# Altium integrated library Linear Technology Power Management Battery Management.IntLib: 626 symbols (part 5 of 56)
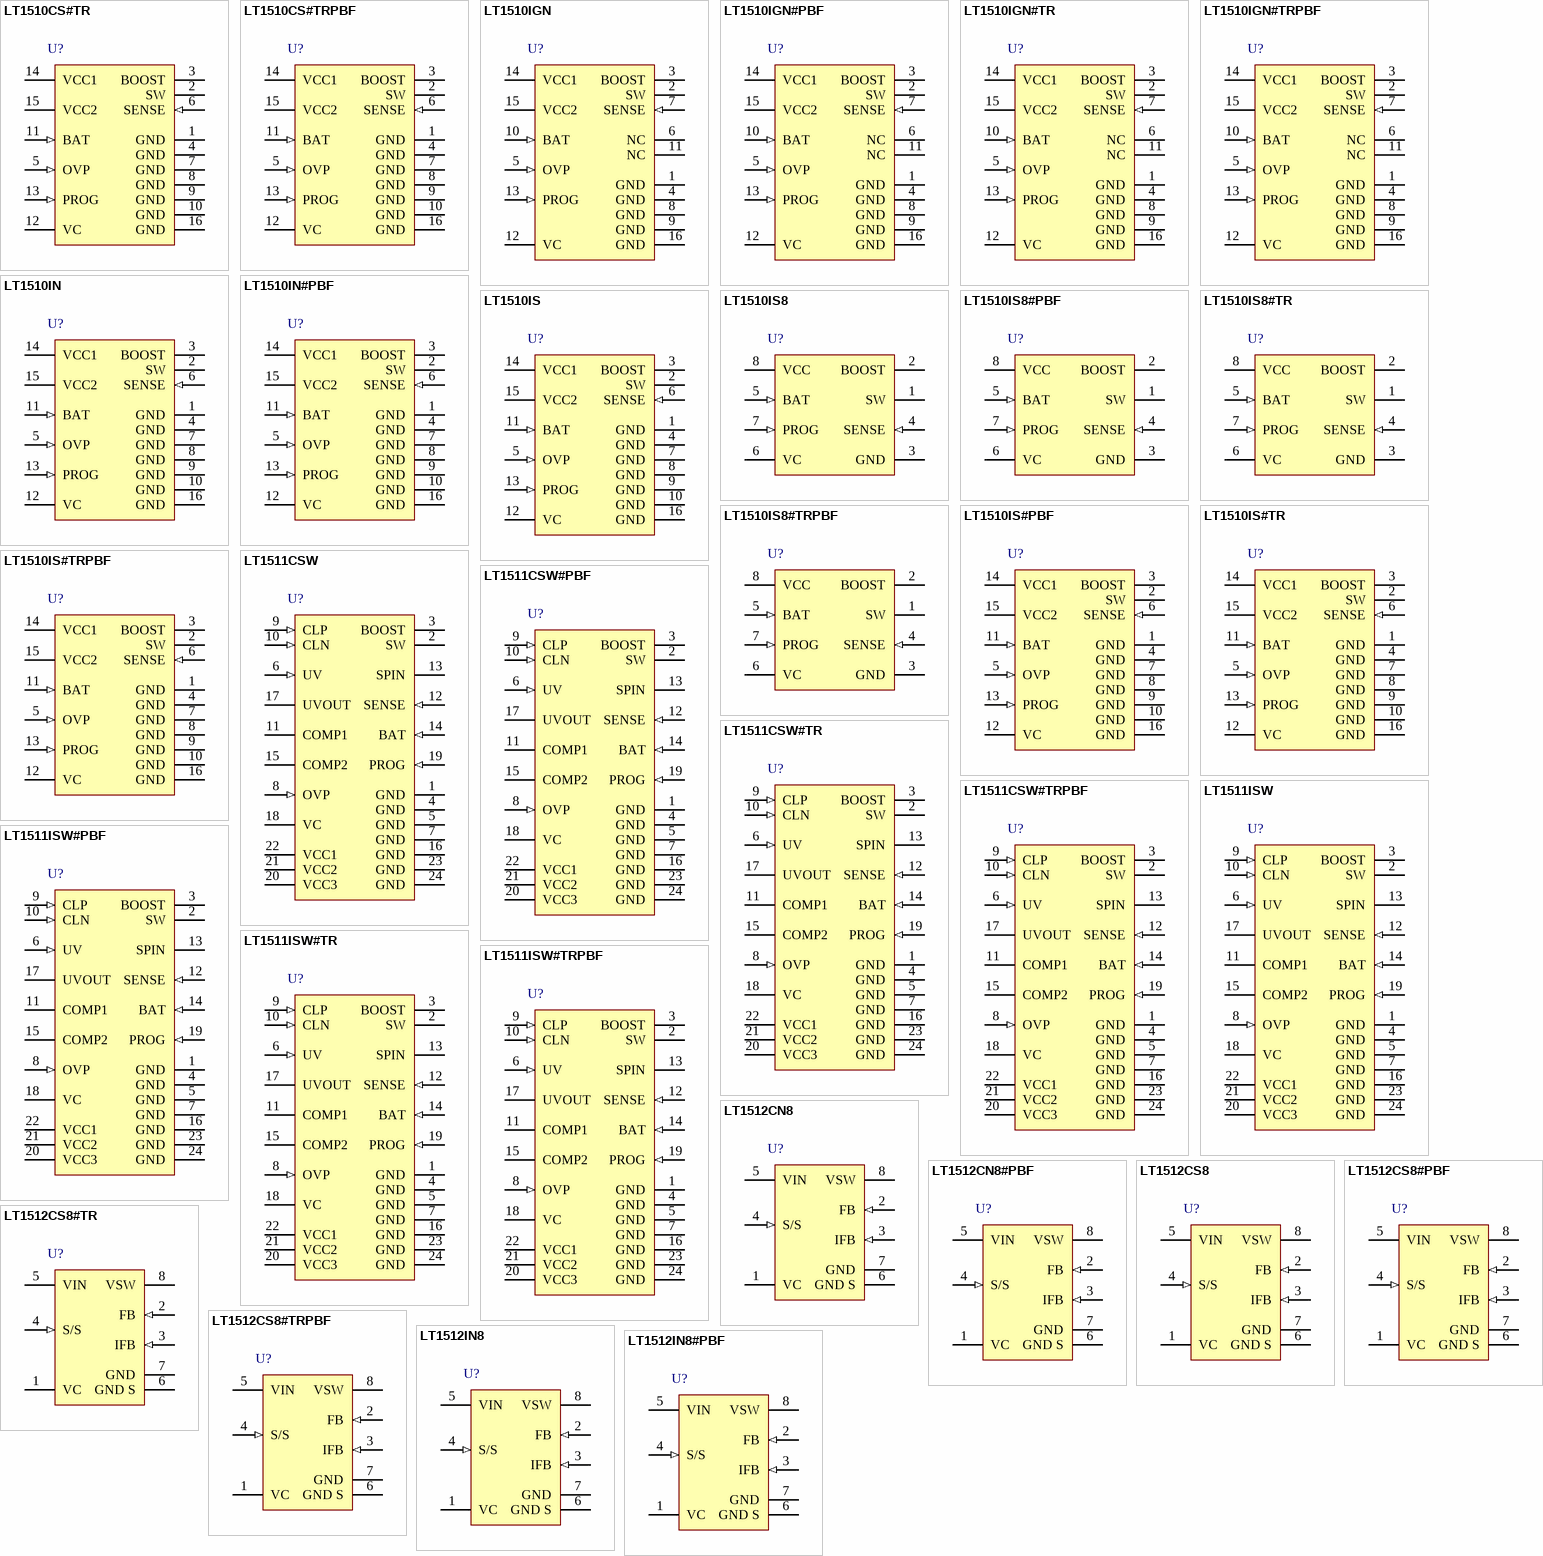
[diagram p26: symbols LT1510CS#TR to LT1512IN8#PBF]

## LT1511CSW#TRPBF
designator U?
Integrated Switching Charger with 4 A Internal Switch, 7 to 28 V Vin, 24-pin SOIC (SW-24), 0 to 70 degC, Pb-Free, Tape and Reel; Manufacturer: Linear Technology; PartNumber: LT1511CSW#TRPBF; Battery Chemistry: Li-Ion, Li-Polymer, NiCd, NiMH, Lead Acid; Charge Termination: Use LTC1729; Float Voltage: Adj; Max Charge Current(A): 3; Number of Cells: 1 to 4 (Li), 1 to 12 (Ni); Vin Max(V): 28; Vin Min(V): 7; DatasheetVersion: Rev. B; PackageVersion: Jun-10; PackageReference: SW-24; PackageDescription: 24-Pin Plastic Small Outline, Body 15.395 x 7.493 mm, Pitch 1.27 mm; Supplier 1: Digi-Key; Supplier Part Number 1: LT1511CSW#TRPBF-ND; Supplier 2: Newark; Supplier Part Number 2: 58M0982; Packing: Tape and Reel; RoHS: TRUE; Type of Charger: Switching; Mounting Technology: Surface Mount; ComponentLink1Description: Manufacturer URL; ComponentLink1URL: http://www.linear.com/; ComponentLink2Description: Datasheet; ComponentLink2URL: http://cds.linear.com/docs/en/datasheet/1511fb.pdf; ComponentLink3Description: Package Specification; ComponentLink3URL: http://cds.linear.com/docs/Packaging/SO_24_05-08-1620.pdf
footprint LT-SW-24_N (SOIC, 24-Leads, Body 15.6x7.6mm, Pitch 1.27mm, IPC Medium Density)
footprint LT-SW-24_L (SOIC, 24-Leads, Body 15.6x7.6mm, Pitch 1.27mm, IPC High Density)
footprint LT-SW-24_M (SOIC, 24-Leads, Body 15.6x7.6mm, Pitch 1.27mm, IPC Low Density)
pins: 1 GND (power) "Ground Pin.", 2 SW (power) "Switch Output. The Schottky catch diode must be placed with very short lead length in close proximity to SW pin and GND.", 3 BOOST "This pin is used to bootstrap and drive the switch power NPN transistor to a low on-voltage for low power dissipation. In normal operation, VBOOST = VCC + VBAT when switch is on. Maximum allowable VBOOST is 55V.", 4 GND (power) "Ground Pin.", 5 GND (power) "Ground Pin.", 6 UV (in) "Undervoltage Lockout Input. The rising threshold is at 6.7V with a hysteresis of 0.5V. Switching stops in undervoltage lockout. When the supply (normally the wall adapter output) to the chip is removed, the UV pin has to be (See Datasheet)", 7 GND (power) "Ground Pin.", 8 OVP (in) "This is the input to the amplifier VA with a threshold of 2.465V. Typical input current is about 3nA out of pin. For charging lithium-ion batteries, VA monitors the battery voltage and reduces charging when battery voltage (See Datasheet)", 9 CLP (in) "This is the positive input to the supply current limit amplifier CL1. The threshold is set at 100mV. When used to limit supply current, a filter is needed to filter out the 200kHz switching noise.", 10 CLN (in) "This is the negative input to the amplifier CL1.", 11 COMP1 "This is the compensation node for the amplifier CL1. A 200pF capacitor is required from this pin to GND if input current amplifier CL1 is used. At input adapter current limit, this node rises to 1V. By forcing COMP1 low with (See Datasheet)", 12 SENSE (in) "Current Amplifier CA1 Input. Sensing can be at either terminal of the battery.", 13 SPIN "This pin is for the internal amplifier CA1 bias. It has to be connected to RS1 as shown in the 3A Lithium Battery Charger (Figure 1).", 14 BAT (in) "Current Amplifier CA1 Input.", 15 COMP2 "This is also a compensation node for the amplifier CL1. It gets up to 2.8V at input adapter current limit and/or at constant-voltage charging.", 16 GND (power) "Ground Pin.", 17 UVOUT (oc) "This is an open collector output for undervoltage lockout status. It stays low in undervoltage state. With an external pull-up resistor , it goes high at valid VCC. Note that the base drive of the open collector NPN comes (See Datasheet)", 18 VC "This is the control signal of the inner loop of the current mode PWM. Switching starts at 0.7V. Higher VC corresponds to higher charging current in normal operation. A capacitor of at least 0.33mF to GND filters out noise (See Datasheet)", 19 PROG (in) "This pin is for programming the charging current and for system loop compensation. During normal operation, VPROG stays close to 2.465V. If it is shorted to GND the switching will stop. When a microprocessor controlled DAC (See Datasheet)", 20 VCC3 (power) "This is the supply of the chip. For good bypass, a low ESR capacitor of 20mF or higher is required, with the lead length kept to a minimum. VCC should be between 8V and 28V and at least 3V higher than VBAT. Undervoltage (See Datasheet)", 21 VCC2 (power) "This is the supply of the chip. For good bypass, a low ESR capacitor of 20mF or higher is required, with the lead length kept to a minimum. VCC should be between 8V and 28V and at least 3V higher than VBAT. Undervoltage (See Datasheet)", 22 VCC1 (power) "This is the supply of the chip. For good bypass, a low ESR capacitor of 20mF or higher is required, with the lead length kept to a minimum. VCC should be between 8V and 28V and at least 3V higher than VBAT. Undervoltage (See Datasheet)", 23 GND (power) "Ground Pin.", 24 GND (power) "Ground Pin."

## LT1511ISW
designator U?
Integrated Switching Charger with 4 A Internal Switch, 7 to 28 V Vin, 24-pin SOIC (SW-24), -40 to 85 degC; Manufacturer: Linear Technology; PartNumber: LT1511ISW; Battery Chemistry: Li-Ion, Li-Polymer, NiCd, NiMH, Lead Acid; Charge Termination: Use LTC1729; Float Voltage: Adj; Max Charge Current(A): 3; Number of Cells: 1 to 4 (Li), 1 to 12 (Ni); Vin Max(V): 28; Vin Min(V): 7; DatasheetVersion: Rev. B; PackageVersion: Jun-10; PackageReference: SW-24; PackageDescription: 24-Pin Plastic Small Outline, Body 15.395 x 7.493 mm, Pitch 1.27 mm; Supplier 1: Digi-Key; Supplier Part Number 1: LT1511ISW-ND; RoHS: FALSE; Type of Charger: Switching; Mounting Technology: Surface Mount; ComponentLink1Description: Manufacturer URL; ComponentLink1URL: http://www.linear.com/; ComponentLink2Description: Datasheet; ComponentLink2URL: http://cds.linear.com/docs/en/datasheet/1511fb.pdf; ComponentLink3Description: Package Specification; ComponentLink3URL: http://cds.linear.com/docs/Packaging/SO_24_05-08-1620.pdf
footprint LT-SW-24_N (SOIC, 24-Leads, Body 15.6x7.6mm, Pitch 1.27mm, IPC Medium Density)
footprint LT-SW-24_L (SOIC, 24-Leads, Body 15.6x7.6mm, Pitch 1.27mm, IPC High Density)
footprint LT-SW-24_M (SOIC, 24-Leads, Body 15.6x7.6mm, Pitch 1.27mm, IPC Low Density)
pins: 1 GND (power) "Ground Pin.", 2 SW (power) "Switch Output. The Schottky catch diode must be placed with very short lead length in close proximity to SW pin and GND.", 3 BOOST "This pin is used to bootstrap and drive the switch power NPN transistor to a low on-voltage for low power dissipation. In normal operation, VBOOST = VCC + VBAT when switch is on. Maximum allowable VBOOST is 55V.", 4 GND (power) "Ground Pin.", 5 GND (power) "Ground Pin.", 6 UV (in) "Undervoltage Lockout Input. The rising threshold is at 6.7V with a hysteresis of 0.5V. Switching stops in undervoltage lockout. When the supply (normally the wall adapter output) to the chip is removed, the UV pin has to be (See Datasheet)", 7 GND (power) "Ground Pin.", 8 OVP (in) "This is the input to the amplifier VA with a threshold of 2.465V. Typical input current is about 3nA out of pin. For charging lithium-ion batteries, VA monitors the battery voltage and reduces charging when battery voltage (See Datasheet)", 9 CLP (in) "This is the positive input to the supply current limit amplifier CL1. The threshold is set at 100mV. When used to limit supply current, a filter is needed to filter out the 200kHz switching noise.", 10 CLN (in) "This is the negative input to the amplifier CL1.", 11 COMP1 "This is the compensation node for the amplifier CL1. A 200pF capacitor is required from this pin to GND if input current amplifier CL1 is used. At input adapter current limit, this node rises to 1V. By forcing COMP1 low with (See Datasheet)", 12 SENSE (in) "Current Amplifier CA1 Input. Sensing can be at either terminal of the battery.", 13 SPIN "This pin is for the internal amplifier CA1 bias. It has to be connected to RS1 as shown in the 3A Lithium Battery Charger (Figure 1).", 14 BAT (in) "Current Amplifier CA1 Input.", 15 COMP2 "This is also a compensation node for the amplifier CL1. It gets up to 2.8V at input adapter current limit and/or at constant-voltage charging.", 16 GND (power) "Ground Pin.", 17 UVOUT (oc) "This is an open collector output for undervoltage lockout status. It stays low in undervoltage state. With an external pull-up resistor , it goes high at valid VCC. Note that the base drive of the open collector NPN comes (See Datasheet)", 18 VC "This is the control signal of the inner loop of the current mode PWM. Switching starts at 0.7V. Higher VC corresponds to higher charging current in normal operation. A capacitor of at least 0.33mF to GND filters out noise (See Datasheet)", 19 PROG (in) "This pin is for programming the charging current and for system loop compensation. During normal operation, VPROG stays close to 2.465V. If it is shorted to GND the switching will stop. When a microprocessor controlled DAC (See Datasheet)", 20 VCC3 (power) "This is the supply of the chip. For good bypass, a low ESR capacitor of 20mF or higher is required, with the lead length kept to a minimum. VCC should be between 8V and 28V and at least 3V higher than VBAT. Undervoltage (See Datasheet)", 21 VCC2 (power) "This is the supply of the chip. For good bypass, a low ESR capacitor of 20mF or higher is required, with the lead length kept to a minimum. VCC should be between 8V and 28V and at least 3V higher than VBAT. Undervoltage (See Datasheet)", 22 VCC1 (power) "This is the supply of the chip. For good bypass, a low ESR capacitor of 20mF or higher is required, with the lead length kept to a minimum. VCC should be between 8V and 28V and at least 3V higher than VBAT. Undervoltage (See Datasheet)", 23 GND (power) "Ground Pin.", 24 GND (power) "Ground Pin."

## LT1511ISW#PBF
designator U?
Integrated Switching Charger with 4 A Internal Switch, 7 to 28 V Vin, 24-pin SOIC (SW-24), -40 to 85 degC, Pb-Free; Manufacturer: Linear Technology; PartNumber: LT1511ISW#PBF; Battery Chemistry: Li-Ion, Li-Polymer, NiCd, NiMH, Lead Acid; Charge Termination: Use LTC1729; Float Voltage: Adj; Max Charge Current(A): 3; Number of Cells: 1 to 4 (Li), 1 to 12 (Ni); Vin Max(V): 28; Vin Min(V): 7; DatasheetVersion: Rev. B; PackageVersion: Jun-10; PackageReference: SW-24; PackageDescription: 24-Pin Plastic Small Outline, Body 15.395 x 7.493 mm, Pitch 1.27 mm; Supplier 1: Digi-Key; Supplier Part Number 1: LT1511ISW#PBF-ND; Supplier 2: Farnell; Supplier Part Number 2: 2295363; RoHS: TRUE; Type of Charger: Switching; Mounting Technology: Surface Mount; ComponentLink1Description: Manufacturer URL; ComponentLink1URL: http://www.linear.com/; ComponentLink2Description: Datasheet; ComponentLink2URL: http://cds.linear.com/docs/en/datasheet/1511fb.pdf; ComponentLink3Description: Package Specification; ComponentLink3URL: http://cds.linear.com/docs/Packaging/SO_24_05-08-1620.pdf
footprint LT-SW-24_N (SOIC, 24-Leads, Body 15.6x7.6mm, Pitch 1.27mm, IPC Medium Density)
footprint LT-SW-24_L (SOIC, 24-Leads, Body 15.6x7.6mm, Pitch 1.27mm, IPC High Density)
footprint LT-SW-24_M (SOIC, 24-Leads, Body 15.6x7.6mm, Pitch 1.27mm, IPC Low Density)
pins: 1 GND (power) "Ground Pin.", 2 SW (power) "Switch Output. The Schottky catch diode must be placed with very short lead length in close proximity to SW pin and GND.", 3 BOOST "This pin is used to bootstrap and drive the switch power NPN transistor to a low on-voltage for low power dissipation. In normal operation, VBOOST = VCC + VBAT when switch is on. Maximum allowable VBOOST is 55V.", 4 GND (power) "Ground Pin.", 5 GND (power) "Ground Pin.", 6 UV (in) "Undervoltage Lockout Input. The rising threshold is at 6.7V with a hysteresis of 0.5V. Switching stops in undervoltage lockout. When the supply (normally the wall adapter output) to the chip is removed, the UV pin has to be (See Datasheet)", 7 GND (power) "Ground Pin.", 8 OVP (in) "This is the input to the amplifier VA with a threshold of 2.465V. Typical input current is about 3nA out of pin. For charging lithium-ion batteries, VA monitors the battery voltage and reduces charging when battery voltage (See Datasheet)", 9 CLP (in) "This is the positive input to the supply current limit amplifier CL1. The threshold is set at 100mV. When used to limit supply current, a filter is needed to filter out the 200kHz switching noise.", 10 CLN (in) "This is the negative input to the amplifier CL1.", 11 COMP1 "This is the compensation node for the amplifier CL1. A 200pF capacitor is required from this pin to GND if input current amplifier CL1 is used. At input adapter current limit, this node rises to 1V. By forcing COMP1 low with (See Datasheet)", 12 SENSE (in) "Current Amplifier CA1 Input. Sensing can be at either terminal of the battery.", 13 SPIN "This pin is for the internal amplifier CA1 bias. It has to be connected to RS1 as shown in the 3A Lithium Battery Charger (Figure 1).", 14 BAT (in) "Current Amplifier CA1 Input.", 15 COMP2 "This is also a compensation node for the amplifier CL1. It gets up to 2.8V at input adapter current limit and/or at constant-voltage charging.", 16 GND (power) "Ground Pin.", 17 UVOUT (oc) "This is an open collector output for undervoltage lockout status. It stays low in undervoltage state. With an external pull-up resistor , it goes high at valid VCC. Note that the base drive of the open collector NPN comes (See Datasheet)", 18 VC "This is the control signal of the inner loop of the current mode PWM. Switching starts at 0.7V. Higher VC corresponds to higher charging current in normal operation. A capacitor of at least 0.33mF to GND filters out noise (See Datasheet)", 19 PROG (in) "This pin is for programming the charging current and for system loop compensation. During normal operation, VPROG stays close to 2.465V. If it is shorted to GND the switching will stop. When a microprocessor controlled DAC (See Datasheet)", 20 VCC3 (power) "This is the supply of the chip. For good bypass, a low ESR capacitor of 20mF or higher is required, with the lead length kept to a minimum. VCC should be between 8V and 28V and at least 3V higher than VBAT. Undervoltage (See Datasheet)", 21 VCC2 (power) "This is the supply of the chip. For good bypass, a low ESR capacitor of 20mF or higher is required, with the lead length kept to a minimum. VCC should be between 8V and 28V and at least 3V higher than VBAT. Undervoltage (See Datasheet)", 22 VCC1 (power) "This is the supply of the chip. For good bypass, a low ESR capacitor of 20mF or higher is required, with the lead length kept to a minimum. VCC should be between 8V and 28V and at least 3V higher than VBAT. Undervoltage (See Datasheet)", 23 GND (power) "Ground Pin.", 24 GND (power) "Ground Pin."

## LT1511ISW#TR
designator U?
Integrated Switching Charger with 4 A Internal Switch, 7 to 28 V Vin, 24-pin SOIC (SW-24), -40 to 85 degC, Tape and Reel; Manufacturer: Linear Technology; PartNumber: LT1511ISW#TR; Battery Chemistry: Li-Ion, Li-Polymer, NiCd, NiMH, Lead Acid; Charge Termination: Use LTC1729; Float Voltage: Adj; Max Charge Current(A): 3; Number of Cells: 1 to 4 (Li), 1 to 12 (Ni); Vin Max(V): 28; Vin Min(V): 7; DatasheetVersion: Rev. B; PackageVersion: Jun-10; PackageReference: SW-24; PackageDescription: 24-Pin Plastic Small Outline, Body 15.395 x 7.493 mm, Pitch 1.27 mm; Supplier 1: Digi-Key; Supplier Part Number 1: LT1511ISW#TR-ND; Packing: Tape and Reel; RoHS: FALSE; Type of Charger: Switching; Mounting Technology: Surface Mount; ComponentLink1Description: Manufacturer URL; ComponentLink1URL: http://www.linear.com/; ComponentLink2Description: Datasheet; ComponentLink2URL: http://cds.linear.com/docs/en/datasheet/1511fb.pdf; ComponentLink3Description: Package Specification; ComponentLink3URL: http://cds.linear.com/docs/Packaging/SO_24_05-08-1620.pdf
footprint LT-SW-24_N (SOIC, 24-Leads, Body 15.6x7.6mm, Pitch 1.27mm, IPC Medium Density)
footprint LT-SW-24_L (SOIC, 24-Leads, Body 15.6x7.6mm, Pitch 1.27mm, IPC High Density)
footprint LT-SW-24_M (SOIC, 24-Leads, Body 15.6x7.6mm, Pitch 1.27mm, IPC Low Density)
pins: 1 GND (power) "Ground Pin.", 2 SW (power) "Switch Output. The Schottky catch diode must be placed with very short lead length in close proximity to SW pin and GND.", 3 BOOST "This pin is used to bootstrap and drive the switch power NPN transistor to a low on-voltage for low power dissipation. In normal operation, VBOOST = VCC + VBAT when switch is on. Maximum allowable VBOOST is 55V.", 4 GND (power) "Ground Pin.", 5 GND (power) "Ground Pin.", 6 UV (in) "Undervoltage Lockout Input. The rising threshold is at 6.7V with a hysteresis of 0.5V. Switching stops in undervoltage lockout. When the supply (normally the wall adapter output) to the chip is removed, the UV pin has to be (See Datasheet)", 7 GND (power) "Ground Pin.", 8 OVP (in) "This is the input to the amplifier VA with a threshold of 2.465V. Typical input current is about 3nA out of pin. For charging lithium-ion batteries, VA monitors the battery voltage and reduces charging when battery voltage (See Datasheet)", 9 CLP (in) "This is the positive input to the supply current limit amplifier CL1. The threshold is set at 100mV. When used to limit supply current, a filter is needed to filter out the 200kHz switching noise.", 10 CLN (in) "This is the negative input to the amplifier CL1.", 11 COMP1 "This is the compensation node for the amplifier CL1. A 200pF capacitor is required from this pin to GND if input current amplifier CL1 is used. At input adapter current limit, this node rises to 1V. By forcing COMP1 low with (See Datasheet)", 12 SENSE (in) "Current Amplifier CA1 Input. Sensing can be at either terminal of the battery.", 13 SPIN "This pin is for the internal amplifier CA1 bias. It has to be connected to RS1 as shown in the 3A Lithium Battery Charger (Figure 1).", 14 BAT (in) "Current Amplifier CA1 Input.", 15 COMP2 "This is also a compensation node for the amplifier CL1. It gets up to 2.8V at input adapter current limit and/or at constant-voltage charging.", 16 GND (power) "Ground Pin.", 17 UVOUT (oc) "This is an open collector output for undervoltage lockout status. It stays low in undervoltage state. With an external pull-up resistor , it goes high at valid VCC. Note that the base drive of the open collector NPN comes (See Datasheet)", 18 VC "This is the control signal of the inner loop of the current mode PWM. Switching starts at 0.7V. Higher VC corresponds to higher charging current in normal operation. A capacitor of at least 0.33mF to GND filters out noise (See Datasheet)", 19 PROG (in) "This pin is for programming the charging current and for system loop compensation. During normal operation, VPROG stays close to 2.465V. If it is shorted to GND the switching will stop. When a microprocessor controlled DAC (See Datasheet)", 20 VCC3 (power) "This is the supply of the chip. For good bypass, a low ESR capacitor of 20mF or higher is required, with the lead length kept to a minimum. VCC should be between 8V and 28V and at least 3V higher than VBAT. Undervoltage (See Datasheet)", 21 VCC2 (power) "This is the supply of the chip. For good bypass, a low ESR capacitor of 20mF or higher is required, with the lead length kept to a minimum. VCC should be between 8V and 28V and at least 3V higher than VBAT. Undervoltage (See Datasheet)", 22 VCC1 (power) "This is the supply of the chip. For good bypass, a low ESR capacitor of 20mF or higher is required, with the lead length kept to a minimum. VCC should be between 8V and 28V and at least 3V higher than VBAT. Undervoltage (See Datasheet)", 23 GND (power) "Ground Pin.", 24 GND (power) "Ground Pin."

## LT1511ISW#TRPBF
designator U?
Integrated Switching Charger with 4 A Internal Switch, 7 to 28 V Vin, 24-pin SOIC (SW-24), -40 to 85 degC, Pb-Free, Tape and Reel; Manufacturer: Linear Technology; PartNumber: LT1511ISW#TRPBF; Battery Chemistry: Li-Ion, Li-Polymer, NiCd, NiMH, Lead Acid; Charge Termination: Use LTC1729; Float Voltage: Adj; Max Charge Current(A): 3; Number of Cells: 1 to 4 (Li), 1 to 12 (Ni); Vin Max(V): 28; Vin Min(V): 7; DatasheetVersion: Rev. B; PackageVersion: Jun-10; PackageReference: SW-24; PackageDescription: 24-Pin Plastic Small Outline, Body 15.395 x 7.493 mm, Pitch 1.27 mm; Supplier 1: Digi-Key; Supplier Part Number 1: LT1511ISW#TRPBF-ND; Packing: Tape and Reel; RoHS: TRUE; Type of Charger: Switching; Mounting Technology: Surface Mount; ComponentLink1Description: Manufacturer URL; ComponentLink1URL: http://www.linear.com/; ComponentLink2Description: Datasheet; ComponentLink2URL: http://cds.linear.com/docs/en/datasheet/1511fb.pdf; ComponentLink3Description: Package Specification; ComponentLink3URL: http://cds.linear.com/docs/Packaging/SO_24_05-08-1620.pdf
footprint LT-SW-24_N (SOIC, 24-Leads, Body 15.6x7.6mm, Pitch 1.27mm, IPC Medium Density)
footprint LT-SW-24_L (SOIC, 24-Leads, Body 15.6x7.6mm, Pitch 1.27mm, IPC High Density)
footprint LT-SW-24_M (SOIC, 24-Leads, Body 15.6x7.6mm, Pitch 1.27mm, IPC Low Density)
pins: 1 GND (power) "Ground Pin.", 2 SW (power) "Switch Output. The Schottky catch diode must be placed with very short lead length in close proximity to SW pin and GND.", 3 BOOST "This pin is used to bootstrap and drive the switch power NPN transistor to a low on-voltage for low power dissipation. In normal operation, VBOOST = VCC + VBAT when switch is on. Maximum allowable VBOOST is 55V.", 4 GND (power) "Ground Pin.", 5 GND (power) "Ground Pin.", 6 UV (in) "Undervoltage Lockout Input. The rising threshold is at 6.7V with a hysteresis of 0.5V. Switching stops in undervoltage lockout. When the supply (normally the wall adapter output) to the chip is removed, the UV pin has to be (See Datasheet)", 7 GND (power) "Ground Pin.", 8 OVP (in) "This is the input to the amplifier VA with a threshold of 2.465V. Typical input current is about 3nA out of pin. For charging lithium-ion batteries, VA monitors the battery voltage and reduces charging when battery voltage (See Datasheet)", 9 CLP (in) "This is the positive input to the supply current limit amplifier CL1. The threshold is set at 100mV. When used to limit supply current, a filter is needed to filter out the 200kHz switching noise.", 10 CLN (in) "This is the negative input to the amplifier CL1.", 11 COMP1 "This is the compensation node for the amplifier CL1. A 200pF capacitor is required from this pin to GND if input current amplifier CL1 is used. At input adapter current limit, this node rises to 1V. By forcing COMP1 low with (See Datasheet)", 12 SENSE (in) "Current Amplifier CA1 Input. Sensing can be at either terminal of the battery.", 13 SPIN "This pin is for the internal amplifier CA1 bias. It has to be connected to RS1 as shown in the 3A Lithium Battery Charger (Figure 1).", 14 BAT (in) "Current Amplifier CA1 Input.", 15 COMP2 "This is also a compensation node for the amplifier CL1. It gets up to 2.8V at input adapter current limit and/or at constant-voltage charging.", 16 GND (power) "Ground Pin.", 17 UVOUT (oc) "This is an open collector output for undervoltage lockout status. It stays low in undervoltage state. With an external pull-up resistor , it goes high at valid VCC. Note that the base drive of the open collector NPN comes (See Datasheet)", 18 VC "This is the control signal of the inner loop of the current mode PWM. Switching starts at 0.7V. Higher VC corresponds to higher charging current in normal operation. A capacitor of at least 0.33mF to GND filters out noise (See Datasheet)", 19 PROG (in) "This pin is for programming the charging current and for system loop compensation. During normal operation, VPROG stays close to 2.465V. If it is shorted to GND the switching will stop. When a microprocessor controlled DAC (See Datasheet)", 20 VCC3 (power) "This is the supply of the chip. For good bypass, a low ESR capacitor of 20mF or higher is required, with the lead length kept to a minimum. VCC should be between 8V and 28V and at least 3V higher than VBAT. Undervoltage (See Datasheet)", 21 VCC2 (power) "This is the supply of the chip. For good bypass, a low ESR capacitor of 20mF or higher is required, with the lead length kept to a minimum. VCC should be between 8V and 28V and at least 3V higher than VBAT. Undervoltage (See Datasheet)", 22 VCC1 (power) "This is the supply of the chip. For good bypass, a low ESR capacitor of 20mF or higher is required, with the lead length kept to a minimum. VCC should be between 8V and 28V and at least 3V higher than VBAT. Undervoltage (See Datasheet)", 23 GND (power) "Ground Pin.", 24 GND (power) "Ground Pin."

## LT1512CN8
designator U?
SEPIC Constant-Current/ Constant-Voltage Battery Charger, 2.4 to 30 V Vin, 8-pin DIP (N8-8), 0 to 70 degC; Manufacturer: Linear Technology; PartNumber: LT1512CN8; Battery Chemistry: Li-Ion, Li-Polymer, NiCd, NiMH, Lead Acid; Charge Termination: External; Float Voltage: Adj; Max Charge Current(A): 0.75; Number of Cells: 1 to 4 (Li), 1 to 12 (Ni); Type of Charger: Switching, Buck-Boost; Vin Max(V): 30; Vin Min(V): 2.4; DatasheetVersion: Rev. A; PackageVersion: Rev. I, 07/2011; PackageReference: N8-8; PackageDescription: 8-Pin PDIP, Body 10.16 x 6.48 mm, Pitch 2.54 mm; Supplier 1: Digi-Key; Supplier Part Number 1: LT1512CN8-ND; RoHS: FALSE; Mounting Technology: Through Hole; ComponentLink1Description: Manufacturer URL; ComponentLink1URL: http://www.linear.com/; ComponentLink2Description: Datasheet; ComponentLink2URL: http://cds.linear.com/docs/en/datasheet/1512fa.pdf; ComponentLink3Description: Package Specification; ComponentLink3URL: http://www.linear.com/docs/en/packaging/05081510_I_N8.pdf
footprint LT-N8-8 (DIP, 8-Leads, Body 10.15x6.85mm, Pitch 2.54mm)
pins: 1 VC "The compensation pin is primarily used for frequency compensation, but it can also be used for soft starting and current limiting. It is the output of the error amplifier and the input of the current comparator. Peak switch (See Datasheet)", 2 FB (in) "The feedback pin is used for positive output voltage sensing. This pin is the inverting input to the voltage error amplifier. The R1/R2 voltage divider connected to FB defines Li-Ion float voltage at full charge, or acts as (See Datasheet)", 3 IFB (in) "The current feedback pin is used to sense charging current. It is the input to a current sense amplifier that controls charging current when the battery voltage is below the programmed voltage. During constant-current (See Datasheet)", 4 S/S (in) "This pin can be used for shutdown and/or synchronization. It is logic level compatible, but can be tied to VIN if desired. It defaults to a high ON state when floated. A logic low state will shut down the charger to a (See Datasheet)", 5 VIN (power) "The input supply pin should be bypassed with a low ESR capacitor located right next to the IC chip. The grounded end of the capacitor must be connected directly to the ground plane to which the GND pin is connected", 6 GND S (power) "The LT1512 uses separate ground pins for switch current (GND) and the control circuitry (GND S). This isolates the control ground from any induced voltage created by fast switch currents. Both pins should be tied directly to (See Datasheet)", 7 GND (power) "The LT1512 uses separate ground pins for switch current (GND) and the control circuitry (GND S). This isolates the control ground from any induced voltage created by fast switch currents. Both pins should be tied directly to (See Datasheet)", 8 VSW (power) "The switch pin is the collector of the power switch, carrying up to 1.5A of current with fast rise and fall times. Keep the traces on this pin as short as possible to minimize radiation and voltage spikes. In particular, the (See Datasheet)"

## LT1512CN8#PBF
designator U?
SEPIC Constant-Current/ Constant-Voltage Battery Charger, 2.4 to 30 V Vin, 8-pin DIP (N8-8), 0 to 70 degC, Pb-Free; Manufacturer: Linear Technology; PartNumber: LT1512CN8#PBF; Battery Chemistry: Li-Ion, Li-Polymer, NiCd, NiMH, Lead Acid; Charge Termination: External; Float Voltage: Adj; Max Charge Current(A): 0.75; Number of Cells: 1 to 4 (Li), 1 to 12 (Ni); Type of Charger: Switching, Buck-Boost; Vin Max(V): 30; Vin Min(V): 2.4; DatasheetVersion: Rev. A; PackageVersion: Rev. I, 07/2011; PackageReference: N8-8; PackageDescription: 8-Pin PDIP, Body 10.16 x 6.48 mm, Pitch 2.54 mm; Supplier 1: Digi-Key; Supplier Part Number 1: LT1512CN8#PBF-ND; Supplier 2: Farnell; Supplier Part Number 2: 1627546; Supplier 3: Newark; Supplier Part Number 3: 57M4702; RoHS: TRUE; Mounting Technology: Through Hole; ComponentLink1Description: Manufacturer URL; ComponentLink1URL: http://www.linear.com/; ComponentLink2Description: Datasheet; ComponentLink2URL: http://cds.linear.com/docs/en/datasheet/1512fa.pdf; ComponentLink3Description: Package Specification; ComponentLink3URL: http://www.linear.com/docs/en/packaging/05081510_I_N8.pdf
footprint LT-N8-8 (DIP, 8-Leads, Body 10.15x6.85mm, Pitch 2.54mm)
pins: 1 VC "The compensation pin is primarily used for frequency compensation, but it can also be used for soft starting and current limiting. It is the output of the error amplifier and the input of the current comparator. Peak switch (See Datasheet)", 2 FB (in) "The feedback pin is used for positive output voltage sensing. This pin is the inverting input to the voltage error amplifier. The R1/R2 voltage divider connected to FB defines Li-Ion float voltage at full charge, or acts as (See Datasheet)", 3 IFB (in) "The current feedback pin is used to sense charging current. It is the input to a current sense amplifier that controls charging current when the battery voltage is below the programmed voltage. During constant-current (See Datasheet)", 4 S/S (in) "This pin can be used for shutdown and/or synchronization. It is logic level compatible, but can be tied to VIN if desired. It defaults to a high ON state when floated. A logic low state will shut down the charger to a (See Datasheet)", 5 VIN (power) "The input supply pin should be bypassed with a low ESR capacitor located right next to the IC chip. The grounded end of the capacitor must be connected directly to the ground plane to which the GND pin is connected", 6 GND S (power) "The LT1512 uses separate ground pins for switch current (GND) and the control circuitry (GND S). This isolates the control ground from any induced voltage created by fast switch currents. Both pins should be tied directly to (See Datasheet)", 7 GND (power) "The LT1512 uses separate ground pins for switch current (GND) and the control circuitry (GND S). This isolates the control ground from any induced voltage created by fast switch currents. Both pins should be tied directly to (See Datasheet)", 8 VSW (power) "The switch pin is the collector of the power switch, carrying up to 1.5A of current with fast rise and fall times. Keep the traces on this pin as short as possible to minimize radiation and voltage spikes. In particular, the (See Datasheet)"

## LT1512CS8
designator U?
SEPIC Constant-Current/ Constant-Voltage Battery Charger, 2.4 to 30 V Vin, 8-pin SOIC (S8-8), 0 to 70 degC; Manufacturer: Linear Technology; PartNumber: LT1512CS8; Battery Chemistry: Li-Ion, Li-Polymer, NiCd, NiMH, Lead Acid; Charge Termination: External; Float Voltage: Adj; Max Charge Current(A): 0.75; Number of Cells: 1 to 4 (Li), 1 to 12 (Ni); Type of Charger: Switching, Buck-Boost; Vin Max(V): 30; Vin Min(V): 2.4; DatasheetVersion: Rev. A; PackageVersion: Rev. G, 03/2012; PackageReference: S8-8; PackageDescription: 8-Pin Plastic Small Outline (Narrow .150 Inch), Body 4.9 x 3.9 mm, Pitch 1.27 mm; Supplier 1: Digi-Key; Supplier Part Number 1: LT1512CS8-ND; Supplier 2: Newark; Supplier Part Number 2: 57M4703; RoHS: FALSE; Mounting Technology: Surface Mount; ComponentLink1Description: Manufacturer URL; ComponentLink1URL: http://www.linear.com/; ComponentLink2Description: Datasheet; ComponentLink2URL: http://cds.linear.com/docs/en/datasheet/1512fa.pdf; ComponentLink3Description: Package Specification; ComponentLink3URL: http://cds.linear.com/docs/en/packaging/05081610_G_SO8.pdf
footprint LT-S8-8_N (SOIC, 8-Leads, Body 5x4mm, Pitch 1.27mm, IPC Medium Density)
footprint LT-S8-8_L (SOIC, 8-Leads, Body 5x4mm, Pitch 1.27mm, IPC High Density)
footprint LT-S8-8_M (SOIC, 8-Leads, Body 5x4mm, Pitch 1.27mm, IPC Low Density)
pins: 1 VC "The compensation pin is primarily used for frequency compensation, but it can also be used for soft starting and current limiting. It is the output of the error amplifier and the input of the current comparator. Peak switch (See Datasheet)", 2 FB (in) "The feedback pin is used for positive output voltage sensing. This pin is the inverting input to the voltage error amplifier. The R1/R2 voltage divider connected to FB defines Li-Ion float voltage at full charge, or acts as (See Datasheet)", 3 IFB (in) "The current feedback pin is used to sense charging current. It is the input to a current sense amplifier that controls charging current when the battery voltage is below the programmed voltage. During constant-current (See Datasheet)", 4 S/S (in) "This pin can be used for shutdown and/or synchronization. It is logic level compatible, but can be tied to VIN if desired. It defaults to a high ON state when floated. A logic low state will shut down the charger to a (See Datasheet)", 5 VIN (power) "The input supply pin should be bypassed with a low ESR capacitor located right next to the IC chip. The grounded end of the capacitor must be connected directly to the ground plane to which the GND pin is connected", 6 GND S (power) "The LT1512 uses separate ground pins for switch current (GND) and the control circuitry (GND S). This isolates the control ground from any induced voltage created by fast switch currents. Both pins should be tied directly to (See Datasheet)", 7 GND (power) "The LT1512 uses separate ground pins for switch current (GND) and the control circuitry (GND S). This isolates the control ground from any induced voltage created by fast switch currents. Both pins should be tied directly to (See Datasheet)", 8 VSW (power) "The switch pin is the collector of the power switch, carrying up to 1.5A of current with fast rise and fall times. Keep the traces on this pin as short as possible to minimize radiation and voltage spikes. In particular, the (See Datasheet)"

## LT1512CS8#PBF
designator U?
SEPIC Constant-Current/ Constant-Voltage Battery Charger, 2.4 to 30 V Vin, 8-pin SOIC (S8-8), 0 to 70 degC, Pb-Free; Manufacturer: Linear Technology; PartNumber: LT1512CS8#PBF; Battery Chemistry: Li-Ion, Li-Polymer, NiCd, NiMH, Lead Acid; Charge Termination: External; Float Voltage: Adj; Max Charge Current(A): 0.75; Number of Cells: 1 to 4 (Li), 1 to 12 (Ni); Type of Charger: Switching, Buck-Boost; Vin Max(V): 30; Vin Min(V): 2.4; DatasheetVersion: Rev. A; PackageVersion: Rev. G, 03/2012; PackageReference: S8-8; PackageDescription: 8-Pin Plastic Small Outline (Narrow .150 Inch), Body 4.9 x 3.9 mm, Pitch 1.27 mm; Supplier 1: Digi-Key; Supplier Part Number 1: LT1512CS8#PBF-ND; Supplier 2: Farnell; Supplier Part Number 2: 9560572; Supplier 3: Newark; Supplier Part Number 3: 57M4704; RoHS: TRUE; Mounting Technology: Surface Mount; ComponentLink1Description: Manufacturer URL; ComponentLink1URL: http://www.linear.com/; ComponentLink2Description: Datasheet; ComponentLink2URL: http://cds.linear.com/docs/en/datasheet/1512fa.pdf; ComponentLink3Description: Package Specification; ComponentLink3URL: http://cds.linear.com/docs/en/packaging/05081610_G_SO8.pdf
footprint LT-S8-8_N (SOIC, 8-Leads, Body 5x4mm, Pitch 1.27mm, IPC Medium Density)
footprint LT-S8-8_L (SOIC, 8-Leads, Body 5x4mm, Pitch 1.27mm, IPC High Density)
footprint LT-S8-8_M (SOIC, 8-Leads, Body 5x4mm, Pitch 1.27mm, IPC Low Density)
pins: 1 VC "The compensation pin is primarily used for frequency compensation, but it can also be used for soft starting and current limiting. It is the output of the error amplifier and the input of the current comparator. Peak switch (See Datasheet)", 2 FB (in) "The feedback pin is used for positive output voltage sensing. This pin is the inverting input to the voltage error amplifier. The R1/R2 voltage divider connected to FB defines Li-Ion float voltage at full charge, or acts as (See Datasheet)", 3 IFB (in) "The current feedback pin is used to sense charging current. It is the input to a current sense amplifier that controls charging current when the battery voltage is below the programmed voltage. During constant-current (See Datasheet)", 4 S/S (in) "This pin can be used for shutdown and/or synchronization. It is logic level compatible, but can be tied to VIN if desired. It defaults to a high ON state when floated. A logic low state will shut down the charger to a (See Datasheet)", 5 VIN (power) "The input supply pin should be bypassed with a low ESR capacitor located right next to the IC chip. The grounded end of the capacitor must be connected directly to the ground plane to which the GND pin is connected", 6 GND S (power) "The LT1512 uses separate ground pins for switch current (GND) and the control circuitry (GND S). This isolates the control ground from any induced voltage created by fast switch currents. Both pins should be tied directly to (See Datasheet)", 7 GND (power) "The LT1512 uses separate ground pins for switch current (GND) and the control circuitry (GND S). This isolates the control ground from any induced voltage created by fast switch currents. Both pins should be tied directly to (See Datasheet)", 8 VSW (power) "The switch pin is the collector of the power switch, carrying up to 1.5A of current with fast rise and fall times. Keep the traces on this pin as short as possible to minimize radiation and voltage spikes. In particular, the (See Datasheet)"

## LT1512CS8#TR
designator U?
SEPIC Constant-Current/ Constant-Voltage Battery Charger, 2.4 to 30 V Vin, 8-pin SOIC (S8-8), 0 to 70 degC, Tape and Reel; Manufacturer: Linear Technology; PartNumber: LT1512CS8#TR; Battery Chemistry: Li-Ion, Li-Polymer, NiCd, NiMH, Lead Acid; Charge Termination: External; Float Voltage: Adj; Max Charge Current(A): 0.75; Number of Cells: 1 to 4 (Li), 1 to 12 (Ni); Type of Charger: Switching, Buck-Boost; Vin Max(V): 30; Vin Min(V): 2.4; DatasheetVersion: Rev. A; PackageVersion: Rev. G, 03/2012; PackageReference: S8-8; PackageDescription: 8-Pin Plastic Small Outline (Narrow .150 Inch), Body 4.9 x 3.9 mm, Pitch 1.27 mm; Supplier 1: Digi-Key; Supplier Part Number 1: LT1512CS8#TR-ND; Packing: Tape and Reel; RoHS: FALSE; Mounting Technology: Surface Mount; ComponentLink1Description: Manufacturer URL; ComponentLink1URL: http://www.linear.com/; ComponentLink2Description: Datasheet; ComponentLink2URL: http://cds.linear.com/docs/en/datasheet/1512fa.pdf; ComponentLink3Description: Package Specification; ComponentLink3URL: http://cds.linear.com/docs/en/packaging/05081610_G_SO8.pdf
footprint LT-S8-8_N (SOIC, 8-Leads, Body 5x4mm, Pitch 1.27mm, IPC Medium Density)
footprint LT-S8-8_L (SOIC, 8-Leads, Body 5x4mm, Pitch 1.27mm, IPC High Density)
footprint LT-S8-8_M (SOIC, 8-Leads, Body 5x4mm, Pitch 1.27mm, IPC Low Density)
pins: 1 VC "The compensation pin is primarily used for frequency compensation, but it can also be used for soft starting and current limiting. It is the output of the error amplifier and the input of the current comparator. Peak switch (See Datasheet)", 2 FB (in) "The feedback pin is used for positive output voltage sensing. This pin is the inverting input to the voltage error amplifier. The R1/R2 voltage divider connected to FB defines Li-Ion float voltage at full charge, or acts as (See Datasheet)", 3 IFB (in) "The current feedback pin is used to sense charging current. It is the input to a current sense amplifier that controls charging current when the battery voltage is below the programmed voltage. During constant-current (See Datasheet)", 4 S/S (in) "This pin can be used for shutdown and/or synchronization. It is logic level compatible, but can be tied to VIN if desired. It defaults to a high ON state when floated. A logic low state will shut down the charger to a (See Datasheet)", 5 VIN (power) "The input supply pin should be bypassed with a low ESR capacitor located right next to the IC chip. The grounded end of the capacitor must be connected directly to the ground plane to which the GND pin is connected", 6 GND S (power) "The LT1512 uses separate ground pins for switch current (GND) and the control circuitry (GND S). This isolates the control ground from any induced voltage created by fast switch currents. Both pins should be tied directly to (See Datasheet)", 7 GND (power) "The LT1512 uses separate ground pins for switch current (GND) and the control circuitry (GND S). This isolates the control ground from any induced voltage created by fast switch currents. Both pins should be tied directly to (See Datasheet)", 8 VSW (power) "The switch pin is the collector of the power switch, carrying up to 1.5A of current with fast rise and fall times. Keep the traces on this pin as short as possible to minimize radiation and voltage spikes. In particular, the (See Datasheet)"

## LT1512CS8#TRPBF
designator U?
SEPIC Constant-Current/ Constant-Voltage Battery Charger, 2.4 to 30 V Vin, 8-pin SOIC (S8-8), 0 to 70 degC, Pb-Free, Tape and Reel; Manufacturer: Linear Technology; PartNumber: LT1512CS8#TRPBF; Battery Chemistry: Li-Ion, Li-Polymer, NiCd, NiMH, Lead Acid; Charge Termination: External; Float Voltage: Adj; Max Charge Current(A): 0.75; Number of Cells: 1 to 4 (Li), 1 to 12 (Ni); Type of Charger: Switching, Buck-Boost; Vin Max(V): 30; Vin Min(V): 2.4; DatasheetVersion: Rev. A; PackageVersion: Rev. G, 03/2012; PackageReference: S8-8; PackageDescription: 8-Pin Plastic Small Outline (Narrow .150 Inch), Body 4.9 x 3.9 mm, Pitch 1.27 mm; Supplier 1: Digi-Key; Supplier Part Number 1: LT1512CS8#TRPBF-ND; Supplier 2: Newark; Supplier Part Number 2: 57M4706; Packing: Tape and Reel; RoHS: TRUE; Mounting Technology: Surface Mount; ComponentLink1Description: Manufacturer URL; ComponentLink1URL: http://www.linear.com/; ComponentLink2Description: Datasheet; ComponentLink2URL: http://cds.linear.com/docs/en/datasheet/1512fa.pdf; ComponentLink3Description: Package Specification; ComponentLink3URL: http://cds.linear.com/docs/en/packaging/05081610_G_SO8.pdf
footprint LT-S8-8_N (SOIC, 8-Leads, Body 5x4mm, Pitch 1.27mm, IPC Medium Density)
footprint LT-S8-8_L (SOIC, 8-Leads, Body 5x4mm, Pitch 1.27mm, IPC High Density)
footprint LT-S8-8_M (SOIC, 8-Leads, Body 5x4mm, Pitch 1.27mm, IPC Low Density)
pins: 1 VC "The compensation pin is primarily used for frequency compensation, but it can also be used for soft starting and current limiting. It is the output of the error amplifier and the input of the current comparator. Peak switch (See Datasheet)", 2 FB (in) "The feedback pin is used for positive output voltage sensing. This pin is the inverting input to the voltage error amplifier. The R1/R2 voltage divider connected to FB defines Li-Ion float voltage at full charge, or acts as (See Datasheet)", 3 IFB (in) "The current feedback pin is used to sense charging current. It is the input to a current sense amplifier that controls charging current when the battery voltage is below the programmed voltage. During constant-current (See Datasheet)", 4 S/S (in) "This pin can be used for shutdown and/or synchronization. It is logic level compatible, but can be tied to VIN if desired. It defaults to a high ON state when floated. A logic low state will shut down the charger to a (See Datasheet)", 5 VIN (power) "The input supply pin should be bypassed with a low ESR capacitor located right next to the IC chip. The grounded end of the capacitor must be connected directly to the ground plane to which the GND pin is connected", 6 GND S (power) "The LT1512 uses separate ground pins for switch current (GND) and the control circuitry (GND S). This isolates the control ground from any induced voltage created by fast switch currents. Both pins should be tied directly to (See Datasheet)", 7 GND (power) "The LT1512 uses separate ground pins for switch current (GND) and the control circuitry (GND S). This isolates the control ground from any induced voltage created by fast switch currents. Both pins should be tied directly to (See Datasheet)", 8 VSW (power) "The switch pin is the collector of the power switch, carrying up to 1.5A of current with fast rise and fall times. Keep the traces on this pin as short as possible to minimize radiation and voltage spikes. In particular, the (See Datasheet)"

## LT1512IN8
designator U?
SEPIC Constant-Current/ Constant-Voltage Battery Charger, 2.4 to 30 V Vin, 8-pin DIP (N8-8), -40 to 85 degC; Manufacturer: Linear Technology; PartNumber: LT1512IN8; Battery Chemistry: Li-Ion, Li-Polymer, NiCd, NiMH, Lead Acid; Charge Termination: External; Float Voltage: Adj; Max Charge Current(A): 0.75; Number of Cells: 1 to 4 (Li), 1 to 12 (Ni); Type of Charger: Switching, Buck-Boost; Vin Max(V): 30; Vin Min(V): 2.4; DatasheetVersion: Rev. A; PackageVersion: Rev. I, 07/2011; PackageReference: N8-8; PackageDescription: 8-Pin PDIP, Body 10.16 x 6.48 mm, Pitch 2.54 mm; Supplier 1: Digi-Key; Supplier Part Number 1: LT1512IN8-ND; RoHS: FALSE; Mounting Technology: Through Hole; ComponentLink1Description: Manufacturer URL; ComponentLink1URL: http://www.linear.com/; ComponentLink2Description: Datasheet; ComponentLink2URL: http://cds.linear.com/docs/en/datasheet/1512fa.pdf; ComponentLink3Description: Package Specification; ComponentLink3URL: http://www.linear.com/docs/en/packaging/05081510_I_N8.pdf
footprint LT-N8-8 (DIP, 8-Leads, Body 10.15x6.85mm, Pitch 2.54mm)
pins: 1 VC "The compensation pin is primarily used for frequency compensation, but it can also be used for soft starting and current limiting. It is the output of the error amplifier and the input of the current comparator. Peak switch (See Datasheet)", 2 FB (in) "The feedback pin is used for positive output voltage sensing. This pin is the inverting input to the voltage error amplifier. The R1/R2 voltage divider connected to FB defines Li-Ion float voltage at full charge, or acts as (See Datasheet)", 3 IFB (in) "The current feedback pin is used to sense charging current. It is the input to a current sense amplifier that controls charging current when the battery voltage is below the programmed voltage. During constant-current (See Datasheet)", 4 S/S (in) "This pin can be used for shutdown and/or synchronization. It is logic level compatible, but can be tied to VIN if desired. It defaults to a high ON state when floated. A logic low state will shut down the charger to a (See Datasheet)", 5 VIN (power) "The input supply pin should be bypassed with a low ESR capacitor located right next to the IC chip. The grounded end of the capacitor must be connected directly to the ground plane to which the GND pin is connected", 6 GND S (power) "The LT1512 uses separate ground pins for switch current (GND) and the control circuitry (GND S). This isolates the control ground from any induced voltage created by fast switch currents. Both pins should be tied directly to (See Datasheet)", 7 GND (power) "The LT1512 uses separate ground pins for switch current (GND) and the control circuitry (GND S). This isolates the control ground from any induced voltage created by fast switch currents. Both pins should be tied directly to (See Datasheet)", 8 VSW (power) "The switch pin is the collector of the power switch, carrying up to 1.5A of current with fast rise and fall times. Keep the traces on this pin as short as possible to minimize radiation and voltage spikes. In particular, the (See Datasheet)"